# Altium schematic symbol library Miscellaneous PMIC.SchLib: 5 symbols
Pins are listed as number, name and electrical type; pins without a type are passive.

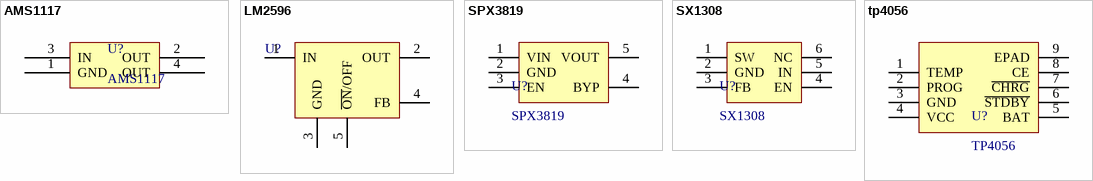
[diagram p0: symbols AMS1117 to tp4056]

## AMS1117
designator U?
footprint AMS1117
pins: 1 GND, 2 OUT, 3 IN, 4 OUT

## LM2596
designator U?
DC降压芯片
footprint TO263-5A (263，5脚晶体管)
pins: 1 IN (power), 2 OUT (power), 3 GND (power), 4 FB, 5 ~{ON}/OFF

## SPX3819
designator U?
footprint SOT23-5
pins: 1 VIN (power), 2 GND (power), 3 EN (power), 4 BYP (power), 5 VOUT (power)

## SX1308
designator U?
footprint SX1308
pins: 1 SW, 2 GND, 3 FB, 4 EN, 5 IN, 6 NC

## tp4056
designator U?, comment TP4056
footprint TP4056
pins: 1 TEMP, 2 PROG, 3 GND, 4 VCC, 5 BAT, 6 ~{STDBY}, 7 ~{CHRG}, 8 CE, 9 EPAD